# EAGLE library part LTC3703 (library PowerProducts)
100V Synchronous Switching Regulator Controller
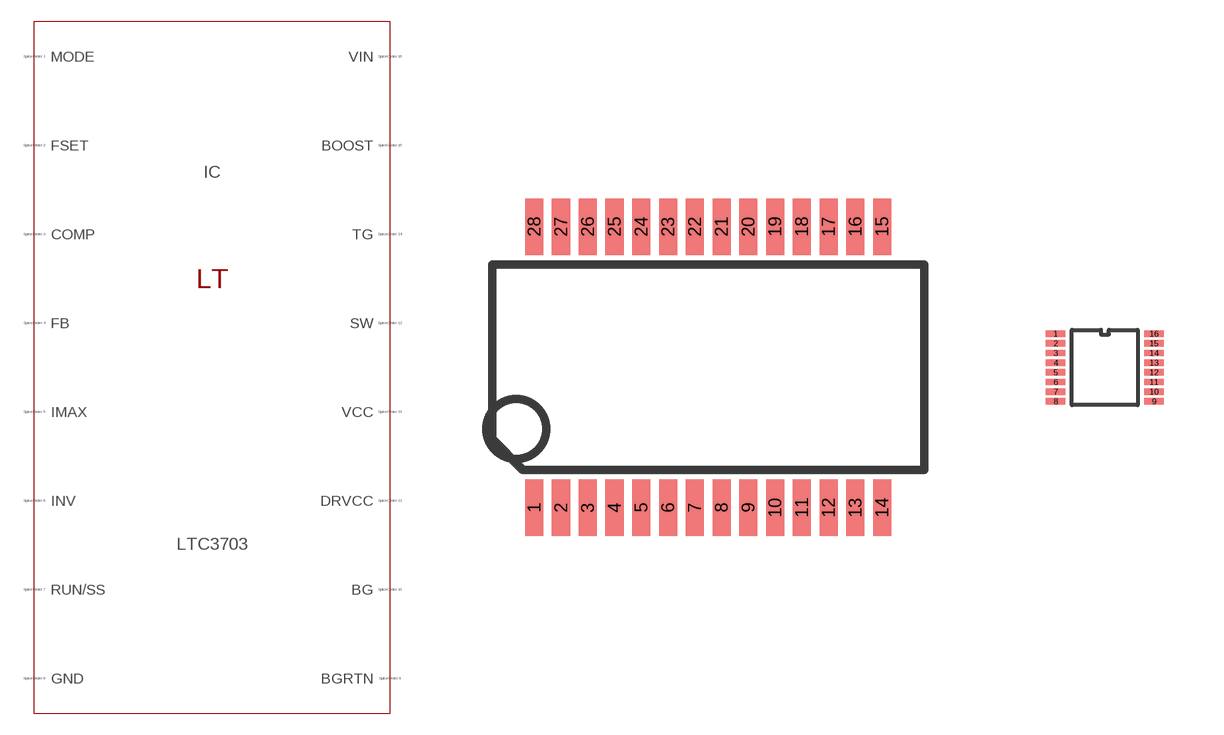
[diagram p282: symbol with the pads of SSOP28(G); footprints SSOP28(G), SSOP16(GN)]

Designator prefix IC

## LTC3703 (SPICEMODEL: LTC3703.sub; SPICEPREFIX: X; VALUE2: LTC3703)  [SSOP28(G)]
1  VIN  pas
6  MODE  pas
7  FSET  pas
8  COMP  pas
9  FB  pas
10  IMAX  pas
11  INV  pas
13  RUN/SS  pas
14  GND  pas
15  BGRTN  pas
19  BG  pas
20  DRVCC  pas
21  VCC  pas
26  SW  pas
27  TG  pas
28  BOOST  pas

## LTC3703GN (SPICEMODEL: LTC3703.sub; SPICEPREFIX: X; VALUE2: LTC3703)  [SSOP16(GN)]
1  MODE  pas
2  FSET  pas
3  COMP  pas
4  FB  pas
5  IMAX  pas
6  INV  pas
7  RUN/SS  pas
8  GND  pas
9  BGRTN  pas
10  BG  pas
11  DRVCC  pas
12  VCC  pas
13  SW  pas
14  TG  pas
15  BOOST  pas
16  VIN  pas

## Footprint SSOP28(G) (pad centres in mm)
Package generated from: SSOP28(G).asc (!PADS-POWERPCB-V5.0-BASIC! DESIGN DATABASE ASCII FILE 1.0) with :import-pads-powerpcb-v5.ulp Version 1.0.1 at 04.10.2012 14:11:39
smd 0.66 x 2.055: 1 -6.338,-5.122; 2 -5.362,-5.122; 3 -4.388,-5.122; 4 -3.413,-5.122; 5 -2.438,-5.122; 6 -1.462,-5.122; 7 -0.487,-5.122; 8 0.487,-5.122; 9 1.462,-5.122; 10 2.438,-5.122; 11 3.413,-5.122; 12 4.388,-5.122; 13 5.362,-5.122; 14 6.338,-5.122; 15 6.338,5.122; 16 5.362,5.122; 17 4.388,5.122; 18 3.413,5.122; 19 2.438,5.122; 20 1.462,5.122; 21 0.487,5.122; 22 -0.487,5.122; 23 -1.462,5.122; 24 -2.438,5.122; 25 -3.413,5.122; 26 -4.388,5.122; 27 -5.362,5.122; 28 -6.338,5.122

## Footprint SSOP16(GN) (pad centres in mm)
Package generated from: SSOP16(GN).asc (!PADS-POWERPCB-V5.0-BASIC! DESIGN DATABASE ASCII FILE 1.0) with :import-pads-powerpcb-v5.ulp Version 1.0.1 at 04.10.2012 14:11:37
smd 0.484 x 0.16: 1 -1.229,0.847; 2 -1.229,0.605; 3 -1.229,0.363; 4 -1.229,0.121; 5 -1.229,-0.121; 6 -1.229,-0.363; 7 -1.229,-0.605; 8 -1.229,-0.847; 9 1.229,-0.847; 10 1.229,-0.605; 11 1.229,-0.363; 12 1.229,-0.121; 13 1.229,0.121; 14 1.229,0.363; 15 1.229,0.605; 16 1.229,0.847